# Altium footprint library TO220.PcbLib: 2 footprints
Each footprint in its own frame and in the unit in brackets; x right, y up, seen from the top. Pads: shape width x height; smd on the part's side, far side on the other; paste and mask are expansions set on the pad; w line width, h text height; cw(c..) or ccw(c..) is an arc to the next point about the centre after c.
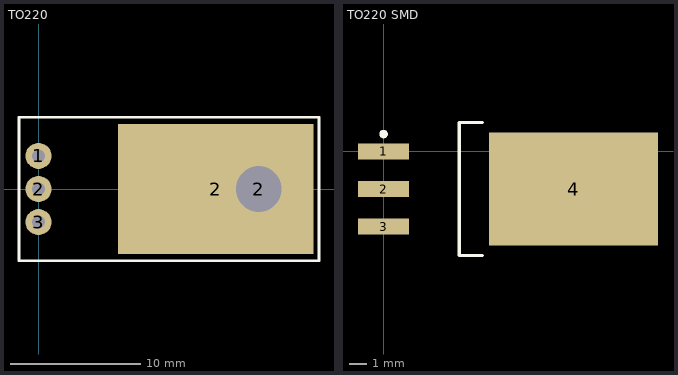
[diagram p0: the footprints below, top view; thin cyan lines are the x and y axes]

## TO220 [mm]
pads (5):
  round 2 hole 1: 1(0,2.54) 2(0,0) 3(0,-2.54)
  rect 15x10 smd: 2(13.589,0)
  round 4 hole 3.5: 2(16.891,0)
Top Overlay:
  lines w0.2: -1.5,-5.5 21.5,-5.5 21.5,5.5 -1.5,5.5 -1.5,-5.5
3D body: height 4.55, standoff -3.58, extent -0.327,-4.947 19.885,4.953

## TO220 SMD [mm]
pads (4):
  rect 3x0.95 smd: 1(0,0) 2(0,-2.2) 3(0,-4.4)
  rect 9.9x6.65 smd: 4(11.15,-2.2)
Top Overlay:
  circle w0.25: c0,1.025 r0.125
  lines w0.2: 5.8,-6.1 4.45,-6.1 4.45,1.7 5.8,1.7
Mechanical 13:
  lines w0.1: 4.45,-6.1 4.45,1.7
3D body: height 4.44, standoff 0, extent -1.027,-7.29 14.228,2.89